# Altium footprint library HDR_fszhang.PcbLib: 115 footprints (part 6 of 8)
Each footprint in its own frame and in the unit in brackets; x right, y up, seen from the top. Pads: shape width x height; smd on the part's side, far side on the other; paste and mask are expansions set on the pad; w line width, h text height; cw(c..) or ccw(c..) is an arc to the next point about the centre after c.
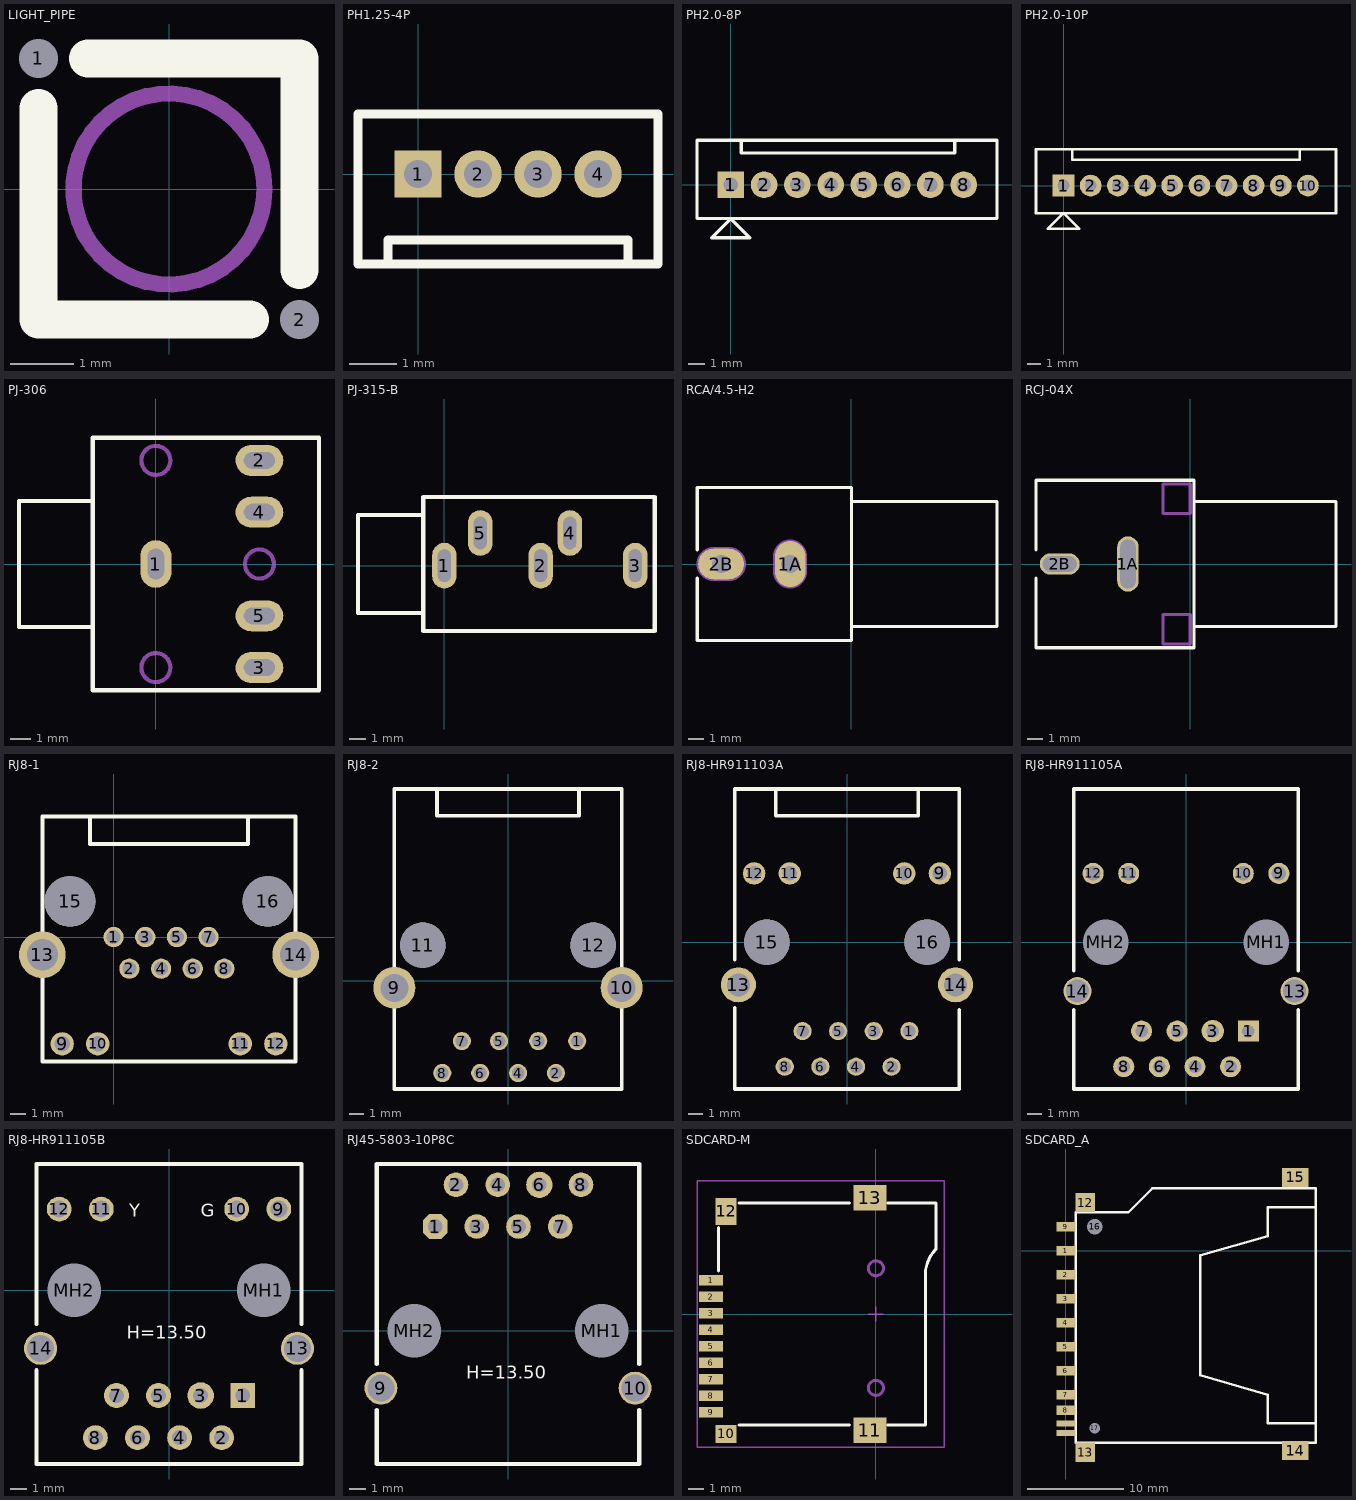
[diagram p5: the footprints below, top view; thin cyan lines are the x and y axes]

## LIGHT_PIPE [mm]
height 16
pads (2):
  round 0.5 hole 0.61: 1(-2.05,2.05) 2(2.05,-2.05)
Top Overlay:
  lines w0.6: -2.05,1.27 -2.05,-2.05 1.27,-2.05 ; -1.27,2.05 2.05,2.05 ; 2.05,-1.27 2.05,2.032
Mechanical 15:
  circle w0.254: c0,0 r1.5

## PH1.25-4P [mm] "PH1.25端子"
height 11.1
pads (4):
  rect 1x1 hole 0.6: 1(0,0)
  round 1 hole 0.6: 2(1.27,0) 3(2.54,0) 4(3.81,0)
Top Overlay:
  lines w0.2: -0.635,-1.905 -0.635,-1.397 4.445,-1.397 4.445,-1.905 ; -1.27,-1.905 -1.27,1.27 5.08,1.27 5.08,-1.905 -1.27,-1.905

## PH2.0-8P [mm] "PH2.0端子"
height 10
pads (8):
  rect 1.6x1.6 hole 0.86: 1(0,0)
  round 1.6 hole 0.86: 2(2,0) 3(4,0) 4(6,0) 5(8,0) 6(10,0) 7(12,0) 8(14,0)
Top Overlay:
  lines w0.2: 0.635,2.667 0.635,1.905 13.462,1.905 13.462,2.667 ; -2.032,-2.032 16.002,-2.032 16.002,2.667 -2.032,2.667 -2.032,-2.032 ; -1.143,-3.175 1.143,-3.175 0,-2.032 -1.143,-3.175

## PH2.0-10P [mm] "PH2.0端子"
height 10
pads (10):
  rect 1.6x1.6 hole 0.86: 1(0,0)
  round 1.6 hole 0.86: 2(2,0) 3(4,0) 4(6,0) 5(8,0) 6(10,0) 7(12,0) 8(14,0) 9(16,0) 10(18,0)
Top Overlay:
  lines w0.2: 0.635,2.667 0.635,1.905 17.399,1.905 17.399,2.667 ; -2.032,-2.032 20.066,-2.032 20.066,2.667 -2.032,2.667 -2.032,-2.032 ; -1.143,-3.175 1.143,-3.175 0,-2.032 -1.143,-3.175

## PJ-306 [mm] "立体声耳机插座"
pads (5):
  oval 1.5x2.3 hole 0.8 slot 1.5 at 90 deg: 1(0,0)
  oval 2.3x1.5 hole 0.8 slot 1.5 at 0 deg: 2(5,5) 3(5,-5) 4(5,2.5) 5(5,-2.5)
Top Overlay:
  lines w0.2: -3.048,-3.048 -6.604,-3.048 -6.604,3.048 -3.048,3.048 ; -3.048,-6.096 7.874,-6.096 7.874,6.096 -3.048,6.096 -3.048,0 -3.048,-6.096
Mechanical 1:
  circle w0.2: c0,-5 r0.7
  circle w0.2: c0,5 r0.7
  circle w0.2: c5,0 r0.7
3D body: height 3.2, standoff -10.8, extent -6.456,-6.05 8.644,6.05

## PJ-315-B [mm] "立体声耳机插座"
pads (5):
  oval 1.5x2.8 hole 0.8 slot 2 at 90 deg: 1(0,0) 2(5.9,0) 3(11.7,0) 4(7.7,2) 5(2.2,2)
Top Overlay:
  lines w0.254: -1.3,-2.9 -5.3,-2.9 -5.3,3.1 -1.3,3.1 ; -1.3,-4 -1.3,4.2 12.9,4.2 12.9,-4 -1.3,-4

## RCA/4.5-H2 [mm] "Two Conductor Jack (RCA)"
height 13
pads (2):
  oval 2x3 hole 1.2: 1A(-4,0)
  oval 3x2 hole 1.2: 2B(-8.496,0)
Top Overlay:
  lines w0.2: -10.075,5 -0.018,5 ; -10.057,-0.92 -10.057,-5 0,-5 0,5 ; -10.057,0.92 -10.057,5 ; 0,-4.065 9.5,-4.065 9.5,4.065 0,4.065
Mechanical 1:
  lines w1.2: -8.996,0 -7.996,0 ; -4,-0.5 -4,0.5
Mechanical 2:
  lines w2.216: -8.996,0 -7.996,0 ; -4,-0.5 -4,0.5

## RCJ-04X [mm] "Two Conductor Jack (RCA)"
height 13
pads (2):
  oval 1.4x3.6 hole 1 slot 3.2 at 90 deg: 1A(-4.064,0)
  oval 2.6x1.4 hole 1 slot 2.2 at 0 deg: 2B(-8.509,0)
Top Overlay:
  lines w0.2: -10.057,-0.92 -10.057,-5.461 0.254,-5.461 0.254,5.461 -10.057,5.461 -10.057,0.92 ; 0.254,-4.065 9.5,-4.065 9.5,4.065 0.254,4.065
Mechanical 1:
  lines w0.2: -1.778,-5.207 0,-5.207 0,-3.302 -1.778,-3.302 -1.778,-5.207 ; -1.778,3.302 -1.778,5.207 0,5.207 0,3.302 -1.778,3.302

## RJ8-1 [mm] "网络"
pads (16):
  round 1.3 hole 0.9: 1(0,0) 2(1.016,-2.032) 3(2.032,0) 4(3.048,-2.032) 5(4.064,0) 6(5.08,-2.032) 7(6.096,0) 8(7.112,-2.032)
  round 1.5 hole 1: 9(-3.302,-6.858) 10(-1.016,-6.858) 11(8.128,-6.858)
  round 1.5 hole 0.9: 12(10.414,-6.858)
  round 3 hole 2: 13(-4.572,-1.143) 14(11.684,-1.143)
  round 3.251 hole 3.251: 15(-2.794,2.286) 16(9.906,2.286)
Top Overlay:
  lines w0.254: -1.524,7.747 -1.524,5.969 8.636,5.969 8.636,7.747 ; -4.572,-8.001 -4.572,-1.143 -4.572,7.747 11.684,7.747 11.684,-1.143 11.684,-8.001 -4.572,-8.001

## RJ8-2 [mm] "网络"
height 10
pads (12):
  round 1.3 hole 0.9: 1(4.953,-4.318) 2(3.429,-6.604) 3(2.159,-4.318) 4(0.72,-6.604) 5(-0.635,-4.318) 6(-1.99,-6.604) 7(-3.302,-4.318) 8(-4.699,-6.604)
  round 3 hole 2: 9(-8.128,-0.508) 10(8.128,-0.508)
  round 3.251 hole 3.251: 11(-6.096,2.54) 12(6.096,2.54)
Top Overlay:
  lines w0.254: -5.08,13.589 -5.08,11.811 5.08,11.811 5.08,13.589 ; -8.128,-7.747 -8.128,-0.889 -8.128,13.716 8.128,13.716 8.128,-0.889 8.128,-7.747 -8.128,-7.747

## RJ8-HR911103A [mm] "网络"
height 10
pads (16):
  round 1.3 hole 0.9: 1(4.45,-6.35) 2(3.18,-8.89) 3(1.91,-6.35) 4(0.64,-8.89) 5(-0.63,-6.35) 6(-1.9,-8.89) 7(-3.17,-6.35) 8(-4.44,-8.89)
  round 1.6 hole 1.02: 9(6.625,4.9) 10(4.085,4.9) 11(-4.085,4.9) 12(-6.625,4.9)
  round 2.5 hole 1.63: 13(-7.745,-3.05) 14(7.745,-3.05)
  round 3.251 hole 3.251: 15(-5.715,0) 16(5.715,0)
Top Overlay:
  lines w0.254: -8,-4.698 -8,-10.48 8,-10.48 8,-4.826 ; -8,-1.27 -8,10.92 8,10.92 8,-1.27 ; -5.08,10.795 -5.08,9.017 5.08,9.017 5.08,10.795

## RJ8-HR911105A [mm] "网络"
height 14.8
pads (16):
  rect 1.5x1.5 hole 0.9: 1(4.45,-6.35)
  round 1.5 hole 0.9: 2(3.18,-8.89) 4(0.64,-8.89) 5(-0.63,-6.35) 6(-1.9,-8.89) 7(-3.17,-6.35) 8(-4.44,-8.89)
  round 1.6 hole 0.9: 3(1.91,-6.35)
  round 1.5 hole 1.02: 9(6.625,4.9) 10(4.085,4.9) 11(-4.085,4.9) 12(-6.625,4.9)
  round 2 hole 1.63: 13(7.745,-3.5) 14(-7.745,-3.5)
  round 2.95 hole 3.25 unplated: MH1(5.715,0) MH2(-5.715,0)
Top Overlay:
  lines w0.25: -8,-4.826 -8,-10.48 8,-10.48 8,-4.826 ; -8,-2.032 -8,10.92 8,10.92 8,-2.032

## RJ8-HR911105B [mm] "网络"
height 14.8
pads (16):
  rect 1.5x1.5 hole 0.9: 1(4.45,-6.35)
  round 1.5 hole 0.9: 2(3.18,-8.89) 4(0.64,-8.89) 5(-0.63,-6.35) 6(-1.9,-8.89) 7(-3.17,-6.35) 8(-4.44,-8.89)
  round 1.6 hole 0.9: 3(1.91,-6.35)
  round 1.5 hole 1.02: 9(6.625,4.9) 10(4.085,4.9) 11(-4.085,4.9) 12(-6.625,4.9)
  round 2 hole 1.63: 13(7.745,-3.5) 14(-7.745,-3.5)
  round 2.95 hole 3.25 unplated: MH1(5.715,0) MH2(-5.715,0)
Top Overlay:
  lines w0.25: -8,-4.826 -8,-10.48 8,-10.48 8,-4.826 ; -8,-2.032 -8,7.62 8,7.62 8,-2.032
  text "H=13.50" at -2.54,-2.921 h0.8
  text "Y" at -2.413,4.445 h0.8
  text "G" at 1.905,4.445 h0.8

## RJ45-5803-10P8C [mm]
height 12
pads (12):
  oct 1.5x1.5 hole 0.9: 1(-4.44,6.35)
  round 1.5 hole 0.9: 2(-3.17,8.89) 3(-1.9,6.35) 4(-0.63,8.89) 5(0.64,6.35) 7(3.18,6.35) 8(4.45,8.89)
  round 1.6 hole 0.9: 6(1.91,8.89)
  round 2 hole 1.63: 9(-7.745,-3.5) 10(7.745,-3.5)
  round 2.95 hole 3.25 unplated: MH1(5.715,0) MH2(-5.715,0)
Top Overlay:
  lines w0.25: -8,-4.826 -8,-8.128 8,-8.128 8,-4.826 ; -8,-2.032 -8,10.16 8,10.16 8,-2.032
  text "H=13.50" at -2.54,-2.921 h0.8

## SDCARD-M [mm] "TF卡"
height 1.5
pads (13):
  rect 1.6x0.7 smd: 1(-11.008,2.25) 2(-11.008,1.15) 3(-11.008,0.05) 4(-11.008,-1.05) 5(-11.008,-2.15) 6(-11.008,-3.25) 7(-11.008,-4.35) 8(-11.008,-5.45) 9(-11.008,-6.55)
  rect 1.4x1.2 smd: 10(-10,-8.004)
  rect 2.2x1.7 smd: 11(-0.4,-7.75) 13(-0.4,7.75)
  rect 1.4x1.8 smd: 12(-10,6.85)
Top Overlay:
  lines w0.2: -10.5,2.88 -10.5,5.756 ; -9.144,-7.4 -1.778,-7.4 ; -9.144,7.4 -1.778,7.4 ; 0.762,-7.4 3.3,-7.4 3.3,1.016 ; 0.762,7.4 4,7.4 4,4.318 ccw(c5.69,2.628) 3.3,2.628 3.3,0.762
Mechanical 1:
  circle w0.2: c0,-4.93 r0.5
  circle w0.2: c0,3.05 r0.5
Mechanical 15:
  lines w0.1: -0.5,0 0.5,0 ; 0,-0.5 0,0.5 ; -11.938,-8.89 4.572,-8.89 4.572,8.89 -11.938,8.89 -11.938,-8.89

## SDCARD_A [mm] "SD卡不自弹"
pads (17):
  rect 2x1 smd: 1(0,0) 2(0,-2.5) 3(0,-5) 4(0,-7.5) 5(0,-10) 6(0,-12.5) 7(0,-15) 8(0,-16.625) 9(0,2.5)
  rect 2x0.6 smd: 10(0,-19) 11(0,-18)
  rect 2x2 smd: 12(2,5) 13(2,-21)
  rect 2.8x2 smd: 14(23.876,-20.828) 15(23.876,7.62)
  round 1.5 hole 1.6: 16(3,2.5)
  round 1 hole 1.1: 17(3,-18.5)
Top Overlay:
  lines w0.254: 26,-18 21,-18 21,-15 14,-13 14,-0.5 21,1.5 21,4.5 26,4.5 ; 1,-20 26,-20 26,6.5 9,6.5 6.5,4 1,4 1,-20